# EAGLE library part MCP2515 (library agsys-valvecontrol)
MCP2515 CAN Controller
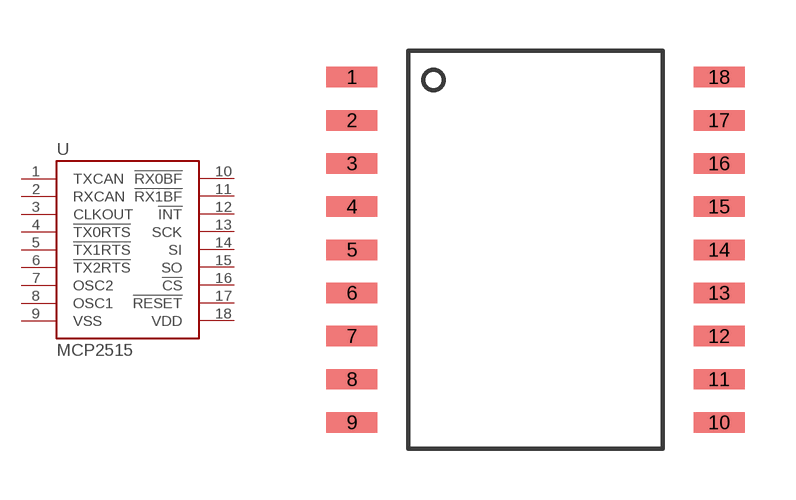
[diagram p2: symbol with the pads of SOIC-18W; footprint SOIC-18W]

Designator prefix U

## MCP2515  [SOIC-18W]
1  TXCAN  out
2  RXCAN  in
3  CLKOUT  out
4  !TX0RTS  in
5  !TX1RTS  in
6  !TX2RTS  in
7  OSC2
8  OSC1
9  VSS  pwr
10  !RX0BF  out
11  !RX1BF  out
12  !INT  out
13  SCK  in
14  SI  in
15  SO  out
16  !CS  in
17  !RESET  in
18  VDD  pwr

## Footprint SOIC-18W (pad centres in mm)
SOIC-18 Wide Body - MCP2515
smd 1.5 x 0.6: 1 -5.4,5.08; 2 -5.4,3.81; 3 -5.4,2.54; 4 -5.4,1.27; 5 -5.4,0; 6 -5.4,-1.27; 7 -5.4,-2.54; 8 -5.4,-3.81; 9 -5.4,-5.08; 10 5.4,-5.08; 11 5.4,-3.81; 12 5.4,-2.54; 13 5.4,-1.27; 14 5.4,0; 15 5.4,1.27; 16 5.4,2.54; 17 5.4,3.81; 18 5.4,5.08